# EAGLE library part RPI_COMPUTE (library ComputeCalculator)
Device for a Raspberry PI Compute module. Note that the package is for a DDR2 connector of 'standard' orientation. Example: TE Connectivity P/N: 1565917-4, Newark P/N: 08P0616, Farnell P/N: 2112525 More information is available at http://www.element14.com/community/community/raspberry-pi/raspberry-pi-compute-module
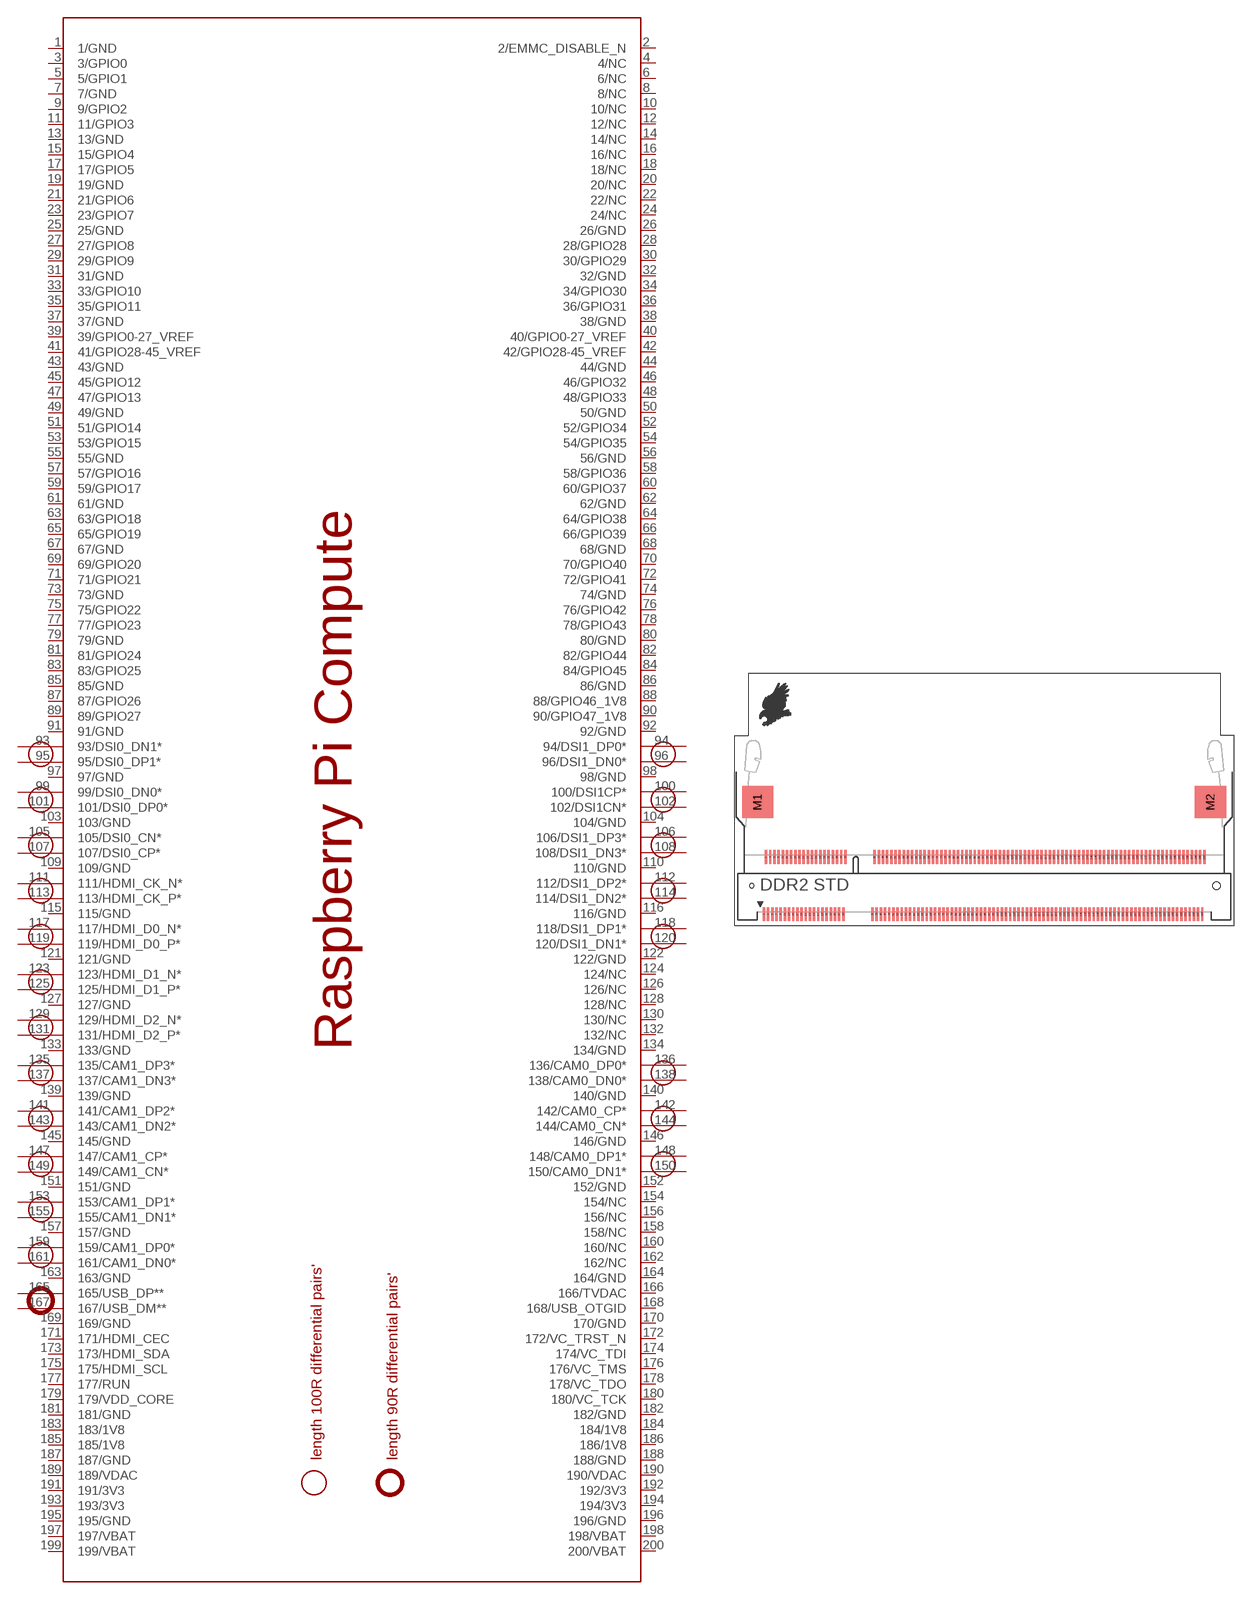
[diagram p4: symbol with the pads of RPI_COMPUTE; footprint RPI_COMPUTE]

Designator prefix PCB

## RPI_COMPUTE  [RPI_COMPUTE]
1  1/GND
2  2/EMMC_DISABLE_N
3  3/GPIO0
4  4/NC
5  5/GPIO1
6  6/NC
7  7/GND
8  8/NC
9  9/GPIO2
10  10/NC
11  11/GPIO3
12  12/NC
13  13/GND
14  14/NC
15  15/GPIO4
16  16/NC
17  17/GPIO5
18  18/NC
19  19/GND
20  20/NC
21  21/GPIO6
22  22/NC
23  23/GPIO7
24  24/NC
25  25/GND
26  26/GND
27  27/GPIO8
28  28/GPIO28
29  29/GPIO9
30  30/GPIO29
31  31/GND
32  32/GND
33  33/GPIO10
34  34/GPIO30
35  35/GPIO11
36  36/GPIO31
37  37/GND
38  38/GND
39  39/GPIO0-27_VREF
40  40/GPIO0-27_VREF
41  41/GPIO28-45_VREF
42  42/GPIO28-45_VREF
43  43/GND
44  44/GND
45  45/GPIO12
46  46/GPIO32
47  47/GPIO13
48  48/GPIO33
49  49/GND
50  50/GND
51  51/GPIO14
52  52/GPIO34
53  53/GPIO15
54  54/GPIO35
55  55/GND
56  56/GND
57  57/GPIO16
58  58/GPIO36
59  59/GPIO17
60  60/GPIO37
61  61/GND
62  62/GND
63  63/GPIO18
64  64/GPIO38
65  65/GPIO19
66  66/GPIO39
67  67/GND
68  68/GND
69  69/GPIO20
70  70/GPIO40
71  71/GPIO21
72  72/GPIO41
73  73/GND
74  74/GND
75  75/GPIO22
76  76/GPIO42
77  77/GPIO23
78  78/GPIO43
79  79/GND
80  80/GND
81  81/GPIO24
82  82/GPIO44
83  83/GPIO25
84  84/GPIO45
85  85/GND
86  86/GND
87  87/GPIO26
88  88/GPIO46_1V8
89  89/GPIO27
90  90/GPIO47_1V8
91  91/GND
92  92/GND
93  93/DSI0_DN1*
94  94/DSI1_DP0*
95  95/DSI0_DP1*
96  96/DSI1_DN0*
97  97/GND
98  98/GND
99  99/DSI0_DN0*
100  100/DSI1CP*
101  101/DSI0_DP0*
102  102/DSI1CN*
103  103/GND
104  104/GND
105  105/DSI0_CN*
106  106/DSI1_DP3*
107  107/DSI0_CP*
108  108/DSI1_DN3*
109  109/GND
110  110/GND
111  111/HDMI_CK_N*
112  112/DSI1_DP2*
113  113/HDMI_CK_P*
114  114/DSI1_DN2*
115  115/GND
116  116/GND
117  117/HDMI_D0_N*
118  118/DSI1_DP1*
119  119/HDMI_D0_P*
120  120/DSI1_DN1*
121  121/GND
122  122/GND
123  123/HDMI_D1_N*
124  124/NC
125  125/HDMI_D1_P*
126  126/NC
127  127/GND
128  128/NC
129  129/HDMI_D2_N*
130  130/NC
131  131/HDMI_D2_P*
132  132/NC
133  133/GND
134  134/GND
135  135/CAM1_DP3*
136  136/CAM0_DP0*
137  137/CAM1_DN3*
138  138/CAM0_DN0*
139  139/GND
140  140/GND
141  141/CAM1_DP2*
142  142/CAM0_CP*
143  143/CAM1_DN2*
144  144/CAM0_CN*
145  145/GND
146  146/GND
147  147/CAM1_CP*
148  148/CAM0_DP1*
149  149/CAM1_CN*
150  150/CAM0_DN1*
151  151/GND
152  152/GND
153  153/CAM1_DP1*
154  154/NC
155  155/CAM1_DN1*
156  156/NC
157  157/GND
158  158/NC
159  159/CAM1_DP0*
160  160/NC
161  161/CAM1_DN0*
162  162/NC
163  163/GND
164  164/GND
165  165/USB_DP**
166  166/TVDAC
167  167/USB_DM**
168  168/USB_OTGID
169  169/GND
170  170/GND
171  171/HDMI_CEC
172  172/VC_TRST_N
173  173/HDMI_SDA
174  174/VC_TDI
175  175/HDMI_SCL
176  176/VC_TMS
177  177/RUN
178  178/VC_TDO
179  179/VDD_CORE
180  180/VC_TCK
181  181/GND
182  182/GND
183  183/1V8
184  184/1V8
185  185/1V8
186  186/1V8
187  187/GND
188  188/GND
189  189/VDAC
190  190/VDAC
191  191/3V3
192  192/3V3
193  193/3V3
194  194/3V3
195  195/GND
196  196/GND
197  197/VBAT
198  198/VBAT
199  199/VBAT
200  200/VBAT

## Footprint RPI_COMPUTE (pad centres in mm)
Package for a DDR2 connector to be used with the Raspberry Pi Compute. Example: TE Connectivity P/N: 1565917-4, Newark P/N: 08P0616, Farnell P/N: 2112525
smd 0.35 x 2: 1 -31.38,-4.1; 2 -31.08,4.1; 3 -30.78,-4.1; 4 -30.48,4.1; 5 -30.18,-4.1; 6 -29.88,4.1; 7 -29.58,-4.1; 8 -29.28,4.1; 9 -28.98,-4.1; 10 -28.68,4.1; 11 -28.38,-4.1; 12 -28.08,4.1; 13 -27.78,-4.1; 14 -27.48,4.1; 15 -27.18,-4.1; 16 -26.88,4.1; 17 -26.58,-4.1; 18 -26.28,4.1; 19 -25.98,-4.1; 20 -25.68,4.1; 21 -25.38,-4.1; 22 -25.08,4.1; 23 -24.78,-4.1; 24 -24.48,4.1; 25 -24.18,-4.1; 26 -23.88,4.1; 27 -23.58,-4.1; 28 -23.28,4.1; 29 -22.98,-4.1; 30 -22.68,4.1; 31 -22.38,-4.1; 32 -22.08,4.1; 33 -21.78,-4.1; 34 -21.48,4.1; 35 -21.18,-4.1; 36 -20.88,4.1; 37 -20.58,-4.1; 38 -20.28,4.1; 39 -19.98,-4.1; 40 -19.68,4.1; 41 -15.78,-4.1; 42 -15.48,4.1; 43 -15.18,-4.1; 44 -14.88,4.1; 45 -14.58,-4.1; 46 -14.28,4.1; 47 -13.98,-4.1; 48 -13.68,4.1; 49 -13.38,-4.1; 50 -13.08,4.1; 51 -12.78,-4.1; 52 -12.48,4.1; 53 -12.18,-4.1; 54 -11.88,4.1; 55 -11.58,-4.1; 56 -11.28,4.1; 57 -10.98,-4.1; 58 -10.68,4.1; 59 -10.38,-4.1; 60 -10.08,4.1; 61 -9.78,-4.1; 62 -9.48,4.1; 63 -9.18,-4.1; 64 -8.88,4.1; 65 -8.58,-4.1; 66 -8.28,4.1; 67 -7.98,-4.1; 68 -7.68,4.1; 69 -7.38,-4.1; 70 -7.08,4.1; 71 -6.78,-4.1; 72 -6.48,4.1; 73 -6.18,-4.1; 74 -5.88,4.1; 75 -5.58,-4.1; 76 -5.28,4.1; 77 -4.98,-4.1; 78 -4.68,4.1; 79 -4.38,-4.1; 80 -4.08,4.1; 81 -3.78,-4.1; 82 -3.48,4.1; 83 -3.18,-4.1; 84 -2.88,4.1; 85 -2.58,-4.1; 86 -2.28,4.1; 87 -1.98,-4.1; 88 -1.68,4.1; 89 -1.38,-4.1; 90 -1.08,4.1; 91 -0.78,-4.1; 92 -0.48,4.1; 93 -0.18,-4.1; 94 0.12,4.1; 95 0.42,-4.1; 96 0.72,4.1; 97 1.02,-4.1; 98 1.32,4.1; 99 1.62,-4.1; 100 1.92,4.1; 101 2.22,-4.1; 102 2.52,4.1; 103 2.82,-4.1; 104 3.12,4.1; 105 3.42,-4.1; 106 3.72,4.1; 107 4.02,-4.1; 108 4.32,4.1; 109 4.62,-4.1; 110 4.92,4.1; 111 5.22,-4.1; 112 5.52,4.1; 113 5.82,-4.1; 114 6.12,4.1; 115 6.42,-4.1; 116 6.72,4.1; 117 7.02,-4.1; 118 7.32,4.1; 119 7.62,-4.1; 120 7.92,4.1; 121 8.22,-4.1; 122 8.52,4.1; 123 8.82,-4.1; 124 9.12,4.1; 125 9.42,-4.1; 126 9.72,4.1; 127 10.02,-4.1; 128 10.32,4.1; 129 10.62,-4.1; 130 10.92,4.1; 131 11.22,-4.1; 132 11.52,4.1; 133 11.82,-4.1; 134 12.12,4.1; 135 12.42,-4.1; 136 12.72,4.1; 137 13.02,-4.1; 138 13.32,4.1; 139 13.62,-4.1; 140 13.92,4.1; 141 14.22,-4.1; 142 14.52,4.1; 143 14.82,-4.1; 144 15.12,4.1; 145 15.42,-4.1; 146 15.72,4.1; 147 16.02,-4.1; 148 16.32,4.1; 149 16.62,-4.1; 150 16.92,4.1; 151 17.22,-4.1; 152 17.52,4.1; 153 17.82,-4.1; 154 18.12,4.1; 155 18.42,-4.1; 156 18.72,4.1; 157 19.02,-4.1; 158 19.32,4.1; 159 19.62,-4.1; 160 19.92,4.1; 161 20.22,-4.1; 162 20.52,4.1; 163 20.82,-4.1; 164 21.12,4.1; 165 21.42,-4.1; 166 21.72,4.1; 167 22.02,-4.1; 168 22.32,4.1; 169 22.62,-4.1; 170 22.92,4.1; 171 23.22,-4.1; 172 23.52,4.1; 173 23.82,-4.1; 174 24.12,4.1; 175 24.42,-4.1; 176 24.72,4.1; 177 25.02,-4.1; 178 25.32,4.1; 179 25.62,-4.1; 180 25.92,4.1; 181 26.22,-4.1; 182 26.52,4.1; 183 26.82,-4.1; 184 27.12,4.1; 185 27.42,-4.1; 186 27.72,4.1; 187 28.02,-4.1; 188 28.32,4.1; 189 28.62,-4.1; 190 28.92,4.1; 191 29.22,-4.1; 192 29.52,4.1; 193 29.82,-4.1; 194 30.12,4.1; 195 30.42,-4.1; 196 30.72,4.1; 197 31.02,-4.1; 198 31.32,4.1; 199 31.62,-4.1; 200 31.92,4.1
smd 4.5 x 4.6: M1 -32.28,12; M2 32.82,12
hole 0.6 at -33.13,0
hole 1.1 at 33.67,0